# Altium schematic symbol library ICs-Chargers.SchLib: 4 symbols
Pins are listed as number, name and electrical type; pins without a type are passive.

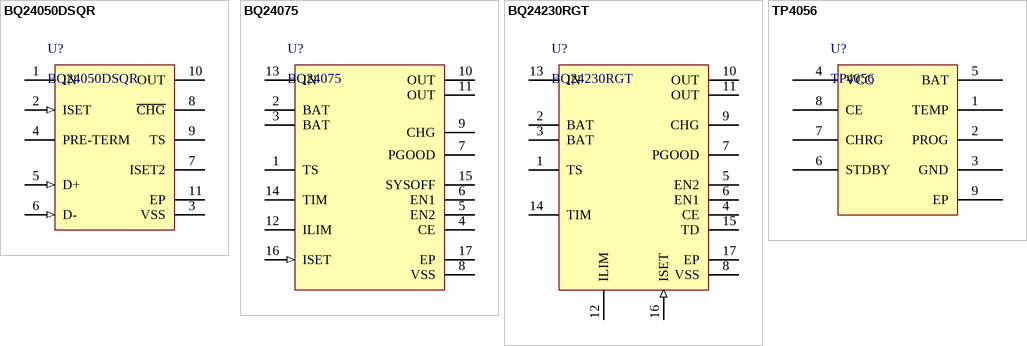
[diagram p0: symbols BQ24050DSQR to TP4056]

## BQ24050DSQR
designator U?
Manufacturer: Texas Instruments; PartNumber: BQ24050DSQR; PackageReference: WSON-10; Mounting Technology: Surface Mount
footprint WSON-10 (SON, 10-Leads, Body 2.00x2.00mm, Pitch 0.40mm, Thermal Pad 1.50x0.79mm, IPC Medium Density)
pins: 1 IN (power) "Input power, connected to external DC supply (AC adapter or USB port). Expected range of bypass capacitors 1 uF to 10 uF, connect from IN to VSS.", 2 ISET (in) "Programs the Fast-charge current setting. External resistor from ISET to VSS defines fast charge current value. Range is 10.8k (50mA) to 675 ohm (800mA).", 3 VSS (power) "Ground terminal.", 4 PRE-TERM "Programs the Current Termination Threshold (5 to 50% of Iout which is set by ISET) and Sets the Pre-Charge Current to twice the Termination Current Level. Expected range of programming resistor is 1k to 10 k ohm(2k: IOUT / (See Datasheet)", 5 D+ (in) "USB port D+ input connection.", 6 D- (in) "USB port D- input connection.", 7 ISET2 "Programming the Input / Output Current Limit for the USB or Adaptor source: High =500 mA max, Low = ISET, FLOAT = 100mA max. D+ D- Detection initially sets the charge threshold and requires ISET2 to change states to take (See Datasheet)", 8 ~{CHG} (hiz) "Low (FET on) indicates charging and Open Drain (FET off) indicates no Charging or Charge complete.", 9 TS "Temperature sense pin connected to ' 0/55 -10k at 25C NTC thermistor, ' 2 - 100k NTC at 25 degC, in the battery pack. Floating TS Pin or pulling High puts part in TTDM and disable TS monitoring, Timers and Termination. (See Datasheet)", 10 OUT (power) "Battery Connection. System Load may be connected. Average load should not be excessive, allowing battery to charge within the 10 hour safety timer window. Expected range of bypass capacitors 1 uF to 10 uF.", 11 EP (power) "There is an internal electrical connection between the exposed thermal pad and the VSS pin of the device. The thermal pad must be connected to the same potential as the VSS pin on the printed circuit board. Do not use the (See Datasheet)"

## BQ24075
designator U?
Standalone 1-Cell 1.5-A Linear Battery Charger with Power Path; Manufacturer: Texas Instruments; PartNumber: BQ24075; PackageReference: VQFN-16; Mounting Technology: Surface Mount
footprint QFN-16 (QFN, 16-Leads, Body 3.00x3.00mm, Pitch 0.50mm, Thermal Pad 1.80x1.80mm, IPC Medium Density)
pins: 1 TS "External NTC Thermistor Input. connect a 10-kΩ fixed resistor from TS to VSS", 2 BAT (hiz) "Low (FET on) indicates charging and Open Drain (FET off) indicates no Charging or Charge complete.", 3 BAT (hiz) "Low (FET on) indicates charging and Open Drain (FET off) indicates no Charging or Charge complete.", 4 CE "Charge Enable Active-Low Input. Connect CE to a low logic level to enable the battery charger", 5 EN2 "Input Current Limit Configuration Input.", 6 EN1 "Input Current Limit Configuration Input.", 7 PGOOD "Input Current Limit Configuration Input.", 8 VSS (power) "Ground terminal.", 9 CHG "Input Current Limit Configuration Input.", 10 OUT (power) "Battery Connection. System Load may be connected. Average load should not be excessive, allowing battery to charge within the 10 hour safety timer window. Expected range of bypass capacitors 1 uF to 10 uF.", 11 OUT (power) "Battery Connection. System Load may be connected. Average load should not be excessive, allowing battery to charge within the 10 hour safety timer window. Expected range of bypass capacitors 1 uF to 10 uF.", 12 ILIM "Input Current Limit Configuration Input.", 13 IN (power) "Input power, connected to external DC supply (AC adapter or USB port). Expected range of bypass capacitors 1 uF to 10 uF, connect from IN to VSS.", 14 TIM (hiz) "Timer Programming Input.", 15 SYSOFF (hiz) "Termination DIsable Input.", 16 ISET (in) "Programs the Fast-charge current setting. External resistor from ISET to VSS defines fast charge current value. Range is 10.8k (50mA) to 675 ohm (800mA).", 17 EP (power) "There is an internal electrical connection between the exposed thermal pad and the VSS pin of the device. The thermal pad must be connected to the same potential as the VSS pin on the printed circuit board. Do not use the (See Datasheet)"

## BQ24230RGT
designator U?
USB-Friendly Lithium-Ion Battery Charger And Power-Path Managemen tIC; Manufacturer: Texas Instruments; PartNumber: BQ24230RGT; PackageReference: VQFN-16; Mounting Technology: Surface Mount
footprint QFN-16 (QFN, 16-Leads, Body 3.00x3.00mm, Pitch 0.50mm, Thermal Pad 1.80x1.80mm, IPC Medium Density)
pins: 1 TS "External NTC Thermistor Input. connect a 10-kΩ fixed resistor from TS to VSS", 2 BAT (hiz) "Low (FET on) indicates charging and Open Drain (FET off) indicates no Charging or Charge complete.", 3 BAT (hiz) "Low (FET on) indicates charging and Open Drain (FET off) indicates no Charging or Charge complete.", 4 CE "Charge Enable Active-Low Input. Connect CE to a low logic level to enable the battery charger", 5 EN2 "Input Current Limit Configuration Input.", 6 EN1 "Input Current Limit Configuration Input.", 7 PGOOD "Input Current Limit Configuration Input.", 8 VSS (power) "Ground terminal.", 9 CHG "Input Current Limit Configuration Input.", 10 OUT (power) "Battery Connection. System Load may be connected. Average load should not be excessive, allowing battery to charge within the 10 hour safety timer window. Expected range of bypass capacitors 1 uF to 10 uF.", 11 OUT (power) "Battery Connection. System Load may be connected. Average load should not be excessive, allowing battery to charge within the 10 hour safety timer window. Expected range of bypass capacitors 1 uF to 10 uF.", 12 ILIM "Input Current Limit Configuration Input.", 13 IN (power) "Input power, connected to external DC supply (AC adapter or USB port). Expected range of bypass capacitors 1 uF to 10 uF, connect from IN to VSS.", 14 TIM (hiz) "Timer Programming Input.", 15 TD (hiz) "Termination DIsable Input.", 16 ISET (in) "Programs the Fast-charge current setting. External resistor from ISET to VSS defines fast charge current value. Range is 10.8k (50mA) to 675 ohm (800mA).", 17 EP (power) "There is an internal electrical connection between the exposed thermal pad and the VSS pin of the device. The thermal pad must be connected to the same potential as the VSS pin on the printed circuit board. Do not use the (See Datasheet)"

## TP4056
designator U?
1 CELL Li-ion Battery Charger; Manufacturer: Nanjing Extension Microelectronics; PartNumber: TP4056; PackageReference: SOP-8; Mounting Technology: Surface Mount
footprint SOIC-8-EP (SOIC, 8-Leads, Body 4.90x3.90mm, Pitch 1.27mm, IPC Medium Density)
pins: 1 TEMP, 2 PROG, 3 GND, 4 VCC, 5 BAT, 6 STDBY, 7 CHRG, 8 CE, 9 EP